# Altium schematic symbol library Ti MSP430.SchLib: 2 symbols
Pins are listed as number, name and electrical type; pins without a type are passive.

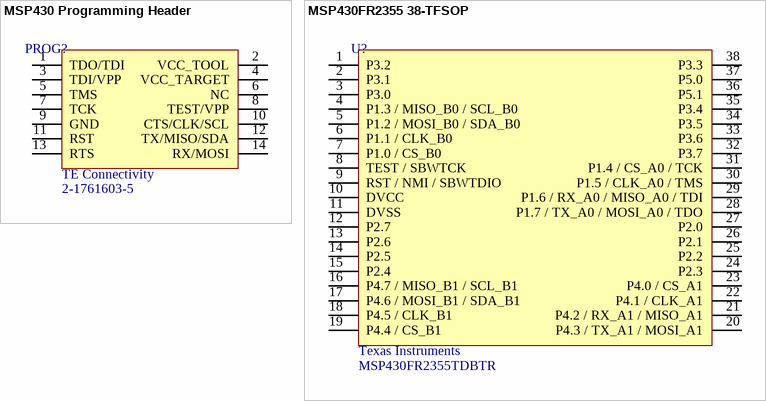
[diagram p0: symbols MSP430 Programming Header to MSP430FR2355 38-TFSOP]

## MSP430 Programming Header
designator PROG?  Manufacturer: TE Connectivity  Manufucturer PartNo: 2-1761603-5  (hidden comment: MSP430 Programming Header)
14 Pin JTAG Header for MSP430 Debug Probe
footprint TE 2-1761603-5 (14 Pin, 100mm, 2 Row)
pins: 1 TDO/TDI, 2 VCC_TOOL, 3 TDI/VPP, 4 VCC_TARGET, 5 TMS, 6 NC, 7 TCK, 8 TEST/VPP, 9 GND, 10 CTS/CLK/SCL, 11 RST, 12 TX/MISO/SDA, 13 RTS, 14 RX/MOSI

## MSP430FR2355 38-TFSOP
designator U?  Manufacturer: Texas Instruments  Manufacturer Part Number: MSP430FR2355TDBTR  (hidden comment: MSP430FR2355 38-TFSOP)
MSP430 Microcontroller
footprint MSP430FR2355 38-TFSOP
pins: 1 P3.2, 2 P3.1, 3 P3.0, 4 P1.3 / MISO_B0 / SCL_B0, 5 P1.2 / MOSI_B0 / SDA_B0, 6 P1.1 / CLK_B0, 7 P1.0 / CS_B0, 8 TEST / SBWTCK, 9 RST / NMI / SBWTDIO, 10 DVCC, 11 DVSS, 12 P2.7, 13 P2.6, 14 P2.5, 15 P2.4, 16 P4.7 / MISO_B1 / SCL_B1, 17 P4.6 / MOSI_B1 / SDA_B1, 18 P4.5 / CLK_B1, 19 P4.4 / CS_B1, 20 P4.3 / TX_A1 / MOSI_A1, 21 P4.2 / RX_A1 / MISO_A1, 22 P4.1 / CLK_A1, 23 P4.0 / CS_A1, 24 P2.3, 25 P2.2, 26 P2.1, 27 P2.0, 28 P1.7 / TX_A0 / MOSI_A0 / TDO, 29 P1.6 / RX_A0 / MISO_A0 / TDI, 30 P1.5 / CLK_A0 / TMS, 31 P1.4 / CS_A0 / TCK, 32 P3.7, 33 P3.6, 34 P3.5, 35 P3.4, 36 P5.1, 37 P5.0, 38 P3.3